# Altium footprint library DO-219AD.PcbLib: 1 footprints
Each footprint in its own frame and in the unit in brackets; x right, y up, seen from the top. Pads: shape width x height; smd on the part's side, far side on the other; paste and mask are expansions set on the pad; w line width, h text height; cw(c..) or ccw(c..) is an arc to the next point about the centre after c.
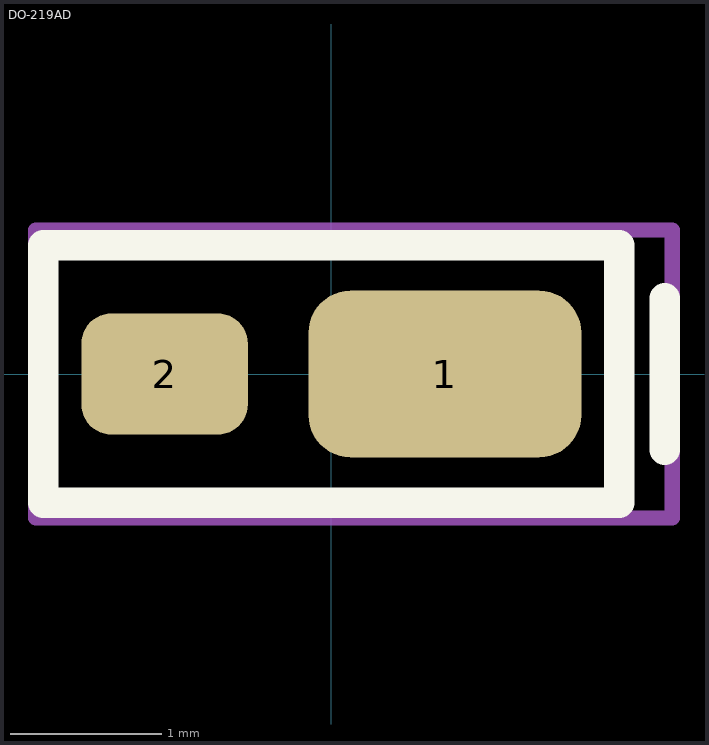
[diagram p0: the footprint, top view; thin cyan lines are the x and y axes]

## DO-219AD [mm]
pads (2):
  rrect50% 1.8x1.1 smd: 1(0.75,0)
  rrect50% 1.1x0.8 smd: 2(-1.1,0)
Top Overlay:
  lines w0.2: 2.2,-0.5 2.2,0.5 ; -1.9,-0.85 1.9,-0.85 1.9,0.85 -1.9,0.85 -1.9,-0.85
Top Courtyard:
  lines w0.1: -1.95,-0.95 -1.95,0.95 2.25,0.95 2.25,-0.95 -1.325,-0.95 -1.95,-0.95
3D body "CR_1HM3H_VIS.step": height 0.74, standoff 0, extent -1.346,-0.698 1.346,0.698